# EAGLE library part DF15_40_ (library con-hirose)
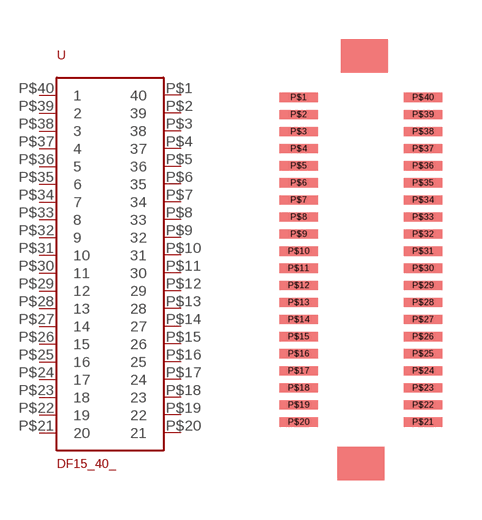
[diagram p37: symbol with the pads of DF15_; footprint DF15_]

Designator prefix -

## DF15_40_  [DF15_]
P$1  40
P$2  39
P$3  38
P$4  37
P$5  36
P$6  35
P$7  34
P$8  33
P$9  32
P$10  31
P$11  30
P$12  29
P$13  28
P$14  27
P$15  26
P$16  25
P$17  24
P$18  23
P$19  22
P$20  21
P$21  20
P$22  19
P$23  18
P$24  17
P$25  16
P$26  15
P$27  14
P$28  13
P$29  12
P$30  11
P$31  10
P$32  9
P$33  8
P$34  7
P$35  6
P$36  5
P$37  4
P$38  3
P$39  2
P$40  1

## Footprint DF15_ (pad centres in mm)
smd 1.45 x 0.35: P$1 -2.366,6.175; P$2 -2.366,5.525; P$3 -2.366,4.875; P$4 -2.366,4.225; P$5 -2.366,3.575; P$6 -2.366,2.925; P$7 -2.366,2.275; P$8 -2.366,1.625; P$9 -2.366,0.975; P$10 -2.366,0.325; P$11 -2.366,-0.325; P$12 -2.366,-0.975; P$13 -2.366,-1.625; P$14 -2.366,-2.275; P$15 -2.366,-2.925; P$16 -2.366,-3.575; P$17 -2.366,-4.225; P$18 -2.366,-4.875; P$19 -2.366,-5.525; P$20 -2.366,-6.175; P$21 2.366,-6.175; P$22 2.366,-5.525; P$23 2.366,-4.875; P$24 2.366,-4.225; P$25 2.366,-3.575; P$26 2.366,-2.925; P$27 2.366,-2.275; P$28 2.366,-1.625; P$29 2.366,-0.975; P$30 2.366,-0.325; P$31 2.366,0.325; P$32 2.366,0.975; P$33 2.366,1.625; P$34 2.366,2.275; P$35 2.366,2.925; P$36 2.366,3.575; P$37 2.366,4.225; P$38 2.366,4.875; P$39 2.366,5.525; P$40 2.366,6.175